# EAGLE library part 8P8C_TOP (library rj)
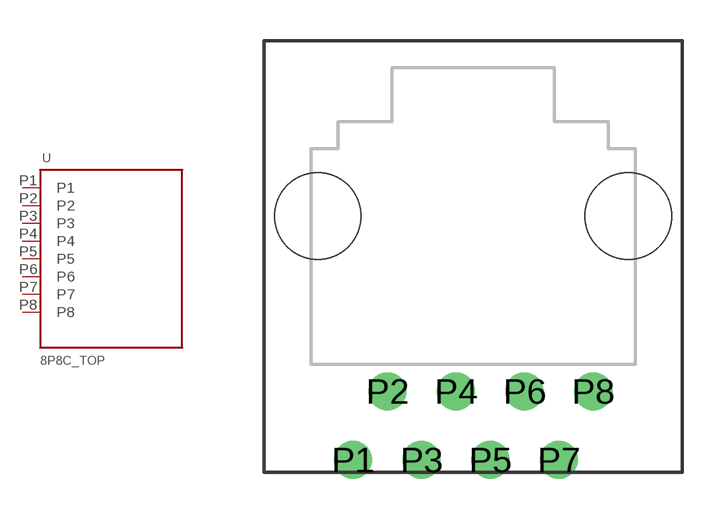
[diagram p1: symbol with the pads of 8P8C_TOP; footprint 8P8C_TOP]

Designator prefix -

## 8P8C_TOP  [8P8C_TOP]
P1  P1
P2  P2
P3  P3
P4  P4
P5  P5
P6  P6
P7  P7
P8  P8

## Footprint 8P8C_TOP (pad centres in mm)
drill 0.9: P1 -4.45,-7.54; P2 -3.175,-5; P3 -1.905,-7.54; P4 -0.635,-5; P5 0.635,-7.54; P6 1.905,-5; P7 3.175,-7.54; P8 4.445,-5
hole 3.2 at 5.75,1.5
hole 3.2 at -5.75,1.5